# EAGLE library part ATZB-24-A2 (library com-cubic)
Zigbit atzb-24-a2 (MNZB-24-A2)
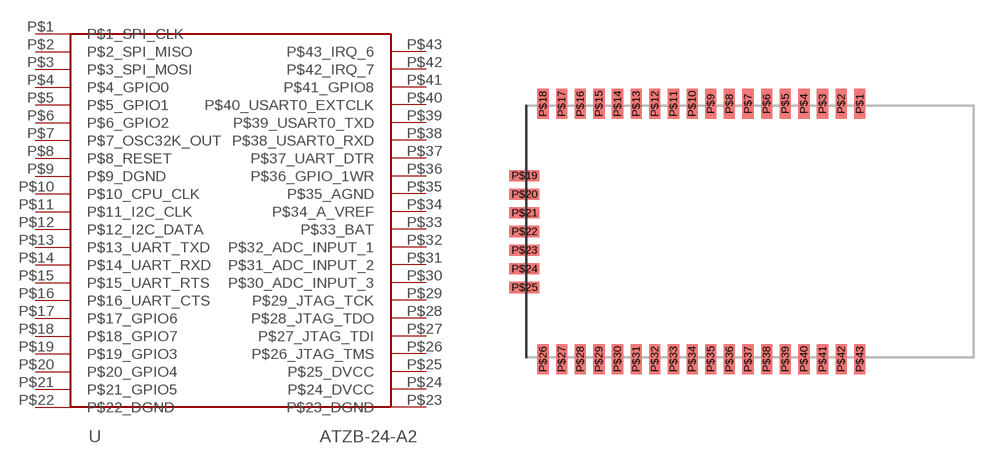
[diagram p0: symbol with the pads of MNZB-24-A2; footprint MNZB-24-A2]

Designator prefix -

## ATZB-24-A2  [MNZB-24-A2]
P$1  P$1_SPI_CLK
P$2  P$2_SPI_MISO
P$3  P$3_SPI_MOSI
P$4  P$4_GPIO0
P$5  P$5_GPIO1
P$6  P$6_GPIO2
P$7  P$7_OSC32K_OUT
P$8  P$8_RESET
P$9  P$9_DGND
P$10  P$10_CPU_CLK
P$11  P$11_I2C_CLK
P$12  P$12_I2C_DATA
P$13  P$13_UART_TXD
P$14  P$14_UART_RXD
P$15  P$15_UART_RTS
P$16  P$16_UART_CTS
P$17  P$17_GPIO6
P$18  P$18_GPIO7
P$19  P$19_GPIO3
P$20  P$20_GPIO4
P$21  P$21_GPIO5
P$22  P$22_DGND
P$23  P$23_DGND
P$24  P$24_DVCC
P$25  P$25_DVCC
P$26  P$26_JTAG_TMS
P$27  P$27_JTAG_TDI
P$28  P$28_JTAG_TDO
P$29  P$29_JTAG_TCK
P$30  P$30_ADC_INPUT_3
P$31  P$31_ADC_INPUT_2
P$32  P$32_ADC_INPUT_1
P$33  P$33_BAT
P$34  P$34_A_VREF
P$35  P$35_AGND
P$36  P$36_GPIO_1WR
P$37  P$37_UART_DTR
P$38  P$38_USART0_RXD
P$39  P$39_USART0_TXD
P$40  P$40_USART0_EXTCLK
P$41  P$41_GPIO8
P$42  P$42_IRQ_7
P$43  P$43_IRQ_6

## Footprint MNZB-24-A2 (pad centres in mm)
MNZB-24-A2 Zigbee with ATmega 1281v MCU which features 128kb of flash memory and 8kb of RAM.
smd 0.6 x 1.6: P$1 8.5,6.85; P$2 7.5,6.85; P$3 6.5,6.85; P$4 5.5,6.85; P$5 4.5,6.85; P$6 3.5,6.85; P$7 2.5,6.85; P$8 1.5,6.85; P$9 0.5,6.85; P$10 -0.5,6.85; P$11 -1.5,6.85; P$12 -2.5,6.85; P$13 -3.5,6.85; P$14 -4.5,6.85; P$15 -5.5,6.85; P$16 -6.5,6.85; P$17 -7.5,6.85; P$18 -8.5,6.85; P$26 -8.5,-6.85; P$27 -7.5,-6.85; P$28 -6.5,-6.85; P$29 -5.5,-6.85; P$30 -4.5,-6.85; P$31 -3.5,-6.85; P$32 -2.5,-6.85; P$33 -1.5,-6.85; P$34 -0.5,-6.85; P$35 0.5,-6.85; P$36 1.5,-6.85; P$37 2.5,-6.85; P$38 3.5,-6.85; P$39 4.5,-6.85; P$40 5.5,-6.85; P$41 6.5,-6.85; P$42 7.5,-6.85; P$43 8.5,-6.85
smd 1.6 x 0.6: P$19 -9.5,3; P$20 -9.5,2; P$21 -9.5,1; P$22 -9.5,0; P$23 -9.5,-1; P$24 -9.5,-2; P$25 -9.5,-3